# EAGLE library part 12401948E412A (library BW-Connectors)
USB 2.0 Type C jack
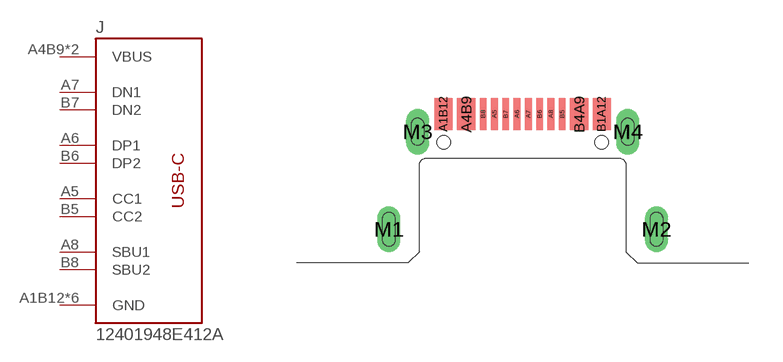
[diagram p3: symbol with the pads of 12401948E412A; footprint 12401948E412A]

Designator prefix J

## 12401948E412A  [12401948E412A]
A1B12  GND
A4B9  VBUS
A5  CC1
A6  DP1
A7  DN1
A8  SBU1
B1A12  GND
B4A9  VBUS
B5  CC2
B6  DP2
B7  DN2
B8  SBU2
M1  GND
M2  GND
M3  GND
M4  GND

## Footprint 12401948E412A (pad centres in mm)
smd 0.8 x 1.4: A1B12 -3.5,6.6; A4B9 -2.5,6.6; B1A12 3.5,6.6; B4A9 2.5,6.6
smd 0.3 x 1.4: A5 -1.25,6.6; A6 -0.25,6.6; A7 0.25,6.6; A8 1.25,6.6; B5 1.75,6.6; B6 0.75,6.6; B7 -0.75,6.6; B8 -1.75,6.6
drill 0.5 pad 0.9 long: M1 -5.92,1.5; M2 5.92,1.5; M3 -4.65,5.82; M4 4.65,5.82
hole 0.6 at -3.5,5.35
hole 0.6 at 3.5,5.35